# Altium footprint library 曾宪阳PCB库.PcbLib: 142 footprints (part 5 of 9)
Each footprint in its own frame and in the unit in brackets; x right, y up, seen from the top. Pads: shape width x height; smd on the part's side, far side on the other; paste and mask are expansions set on the pad; w line width, h text height; cw(c..) or ccw(c..) is an arc to the next point about the centre after c.
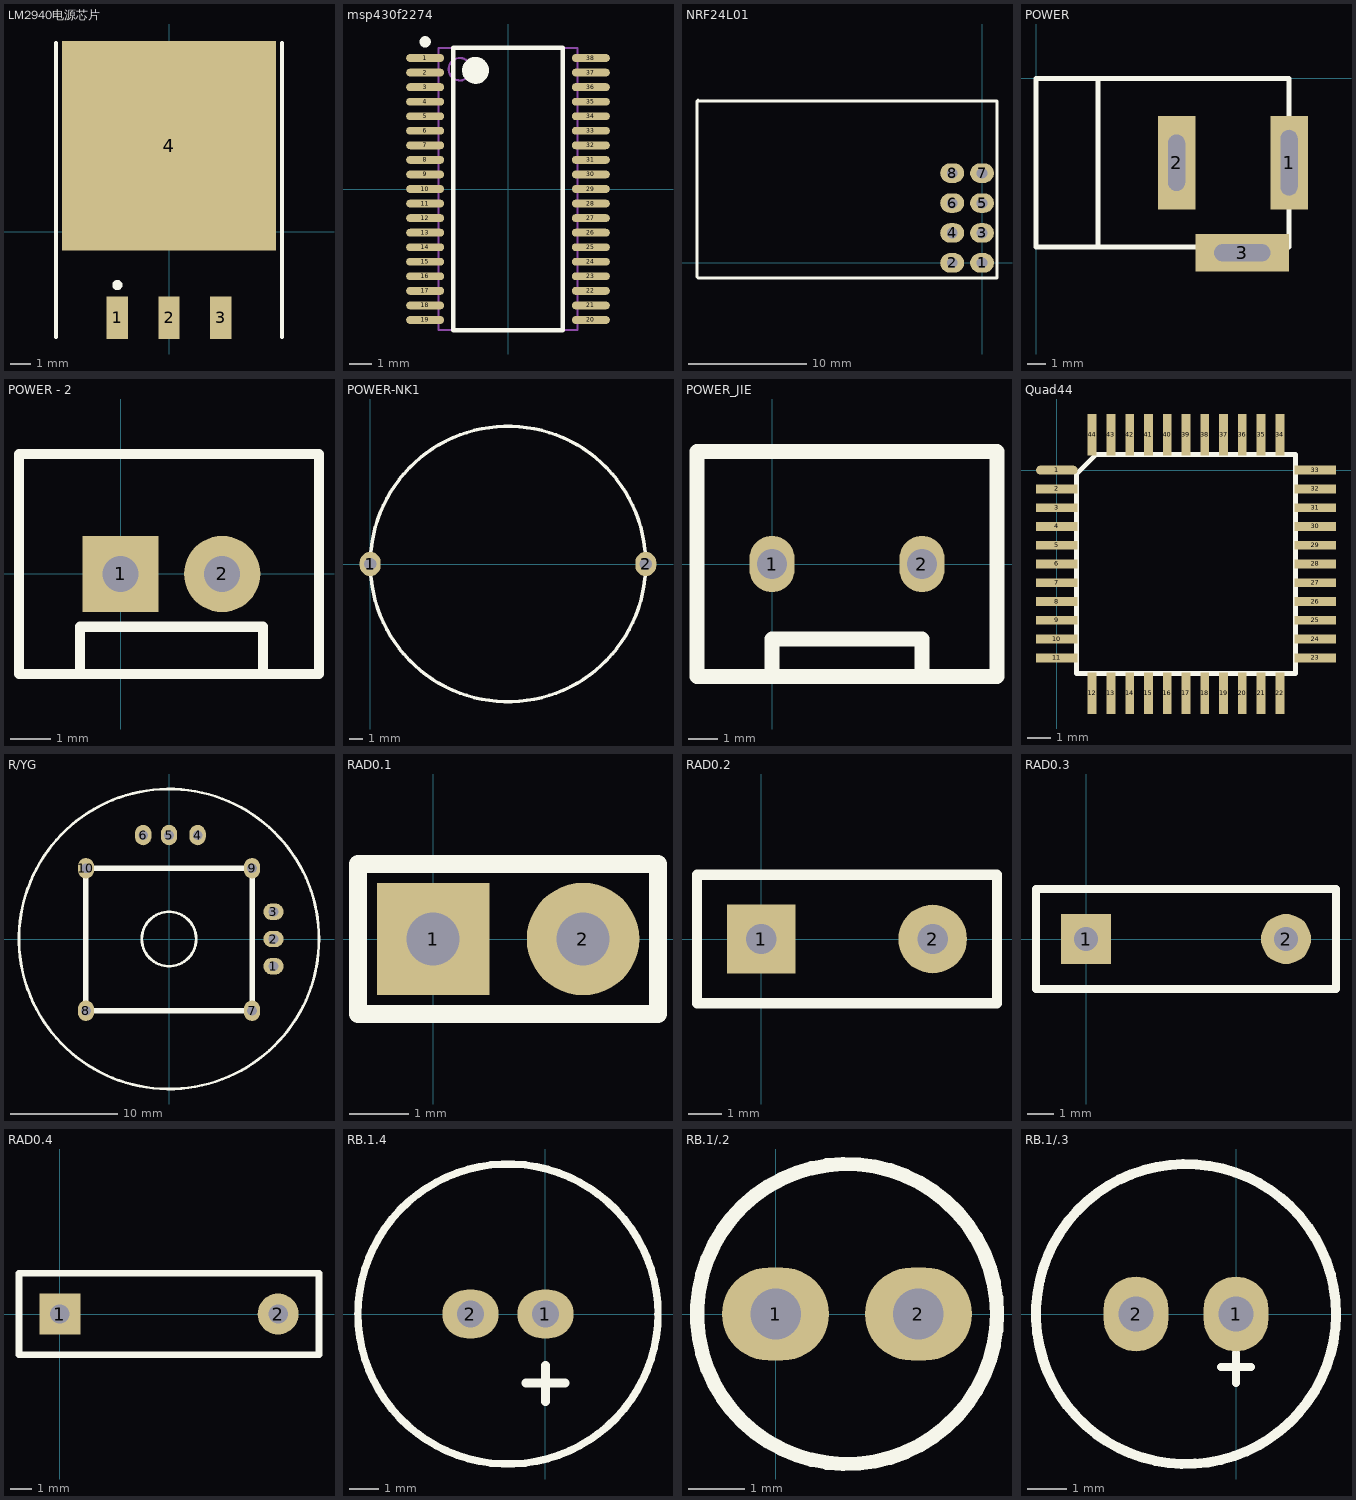
[diagram p4: the footprints below, top view; thin cyan lines are the x and y axes]

## LM2940电源芯片 [mm] "D2-PAK; 3 Leads; Body 14.4 (inc. leads) x 10.4 mm (LxW max)"
height 4.65
pads (4):
  rect 1.05x2.1 smd: 1(-2.54,-4.225) 2(0,-4.225) 3(2.54,-4.225)
  rect 10.5x10.3 smd: 4(0,4.225)
Top Overlay:
  circle w0.25: c-2.54,-2.625 r0.125
  lines w0.2: -5.55,-5.175 -5.55,9.275 ; 5.55,-5.175 5.55,9.275

## msp430f2274 [mm] "TSOP, 38-Leads, Body 12.6x6.2mm (max), Pitch 0.65mm, IPC Medium Density"
height 1.2
pads (38):
  oval 1.7x0.35 smd: 1(-3.7,5.85) 2(-3.7,5.2) 3(-3.7,4.55) 4(-3.7,3.9) 5(-3.7,3.25) 6(-3.7,2.6) 7(-3.7,1.95) 8(-3.7,1.3) 9(-3.7,0.65) 10(-3.7,0) 11(-3.7,-0.65) 12(-3.7,-1.3) 13(-3.7,-1.95) 14(-3.7,-2.6) 15(-3.7,-3.25) 16(-3.7,-3.9) 17(-3.7,-4.55) 18(-3.7,-5.2) 19(-3.7,-5.85) 20(3.7,-5.85) 21(3.7,-5.2) 22(3.7,-4.55) 23(3.7,-3.9) 24(3.7,-3.25) 25(3.7,-2.6) 26(3.7,-1.95) 27(3.7,-1.3) 28(3.7,-0.65) 29(3.7,0) 30(3.7,0.65) 31(3.7,1.3) 32(3.7,1.95) 33(3.7,2.6) 34(3.7,3.25) 35(3.7,3.9) 36(3.7,4.55) 37(3.7,5.2) 38(3.7,5.85)
Top Overlay:
  circle w0.6: c-1.45,5.3 r0.3
  circle w0.25: c-3.7,6.575 r0.125
  lines w0.2: -2.45,-6.3 2.45,-6.3 2.45,6.3 -2.45,6.3 -2.45,-6.3
Mechanical 13:
  circle w0.1: c-2.15,5.35 r0.5
  lines w0.1: -3.1,-6.3 3.1,-6.3 3.1,6.3 -3.1,6.3 -3.1,-6.3

## NRF24L01 [mil]
pads (8):
  oval 80x65 hole 35.43: 1(0,0) 2(-100,0) 3(0,100) 4(-100,100) 5(0,200) 6(-100,200) 7(0,300) 8(-100,300)
Top Overlay:
  lines w10: -953,540.55 -953,-47 -950,-50 50,-50 50,540.55 -946.55,540.55 -950,544

## POWER [mm]
pads (3):
  rect 2x5 hole 0.9 slot 3.5 at 90 deg: 1(13.5,-4.5)
  rect 2x5 hole 0.9 slot 3 at 90 deg: 2(7.5,-4.5)
  rect 5x2 hole 0.9 slot 3 at 0 deg: 3(11,-9.3)
Top Overlay:
  lines w0.254: 3.3,-9 3.3,0 ; 0,-9 0,0 13.5,0 13.5,-4.5 13.5,-9 0,-9

## POWER - 2 [mm]
pads (2):
  rect 1.905x1.905 hole 0.9: 1(0,0)
  round 1.905 hole 0.9: 2(2.54,0)
Top Overlay:
  lines w0.254: -1.016,-2.5 -1.016,-1.318 3.556,-1.318 3.556,-2.5 ; -2.54,-2.5 -2.54,0 -2.54,3 4.96,3 4.96,-2.5 -2.54,-2.5

## POWER-NK1 [mil]
pads (2):
  oval 60x70 hole 35.43: 1(0,0) 2(787.4,0)
Top Overlay:
  circle w10: c393.7,0 r393.7

## POWER_JIE [mil]
pads (2):
  oval 60x75 hole 39.37: 1(0,0) 2(200,0)
Top Overlay:
  lines w20: 0,-150 0,-100 200,-100 200,-150 ; -100,-150 300,-150 300,150 -100,150 -100,-150

## Quad44 [mm]
pads (44):
  oval 1.778x0.375 smd: 1(0,0)
  rect 1.778x0.375 smd: 2(0,-0.8) 3(0,-1.6) 4(0,-2.4) 5(0,-3.2) 6(0,-4) 7(0,-4.8) 8(0,-5.6) 9(0,-6.4) 10(0,-7.2) 11(0,-8) 23(11,-8) 24(11,-7.2) 25(11,-6.4) 26(11,-5.6) 27(11,-4.8) 28(11,-4) 29(11,-3.2) 30(11,-2.4) 31(11,-1.6) 32(11,-0.8) 33(11,0)
  rect 0.375x1.778 smd: 12(1.5,-9.5) 13(2.3,-9.5) 14(3.1,-9.5) 15(3.9,-9.5) 16(4.7,-9.5) 17(5.5,-9.5) 18(6.3,-9.5) 19(7.1,-9.5) 20(7.9,-9.5) 21(8.7,-9.5) 22(9.5,-9.5) 34(9.5,1.5) 35(8.7,1.5) 36(7.9,1.5) 37(7.1,1.5) 38(6.3,1.5) 39(5.5,1.5) 40(4.7,1.5) 41(3.9,1.5) 42(3.1,1.5) 43(2.3,1.5) 44(1.5,1.5)
Top Overlay:
  lines w0.2: 0.835,-8.665 10.165,-8.665 10.165,0.665 1.67,0.665 0.835,-0.17 0.835,-8.665

## R/YG [mm]
pads (10):
  oval 1.905x1.524 hole 0.9: 1(9.75,-2.54) 2(9.75,0) 3(9.75,2.54)
  oval 1.524x1.905 hole 0.9: 4(2.67,9.7) 5(0,9.7) 6(-2.41,9.7) 7(7.75,-6.7) 8(-7.75,-6.7) 9(7.75,6.6) 10(-7.75,6.6)
Top Overlay:
  circle w0.254: c0,0 r2.54
  circle w0.254: c0,0 r14
  lines w0.508: -7.776,-6.7 7.75,-6.7 7.75,6.6 -7.776,6.6 -7.776,-6.7

## RAD0.1 [mm]
pads (2):
  rect 1.905x1.905 hole 0.9: 1(0,0)
  round 1.905 hole 0.9: 2(2.54,0)
Top Overlay:
  lines w0.305: -1.27,-1.27 3.81,-1.27 3.81,1.27 -1.27,1.27 -1.27,-1.27

## RAD0.2 [mil]
pads (2):
  rect 80x80 hole 35.43: 1(0,0)
  round 80 hole 35.43: 2(200,0)
Top Overlay:
  lines w12: -75,-75 -75,75 275,75 275,-75 -75,-75

## RAD0.3 [mm]
pads (2):
  rect 1.905x1.905 hole 0.9: 1(0,0)
  round 1.905 hole 0.9: 2(7.62,0)
Top Overlay:
  lines w0.305: -1.905,-1.905 9.525,-1.905 9.525,1.905 -1.905,1.905 -1.905,-1.905

## RAD0.4 [mm]
pads (2):
  rect 1.905x1.905 hole 0.9: 1(0,0)
  round 1.905 hole 0.9: 2(10.16,0)
Top Overlay:
  lines w0.305: -1.905,-1.905 12.065,-1.905 12.065,1.905 -1.905,1.905 -1.905,-1.905

## RB.1.4 [mil]
pads (2):
  oval 75x65 hole 35.43: 1(0,0) 2(-100,0)
Top Overlay:
  circle w10: c-50,0 r200
  lines w12: -26,-92 26,-92 ; 0,-117 0,-69

## RB.1/.2 [mil]
pads (2):
  oval 75x65 hole 35.43: 1(0,0) 2(100,0)
Top Overlay:
  circle w10: c50,0 r105

## RB.1/.3 [mil]
pads (2):
  oval 65x75 hole 35.43: 1(0,0) 2(-100,0)
Top Overlay:
  lines w7.87: -15,-53 15,-53 ; 0,-69 0,-39
  lines w10: 99.99,-1.27 cw(c-50,0) 100,0